# Altium schematic symbol library DRV5023BIQDBZTQ1.SchLib: 2 symbols
Pins are listed as number, name and electrical type; pins without a type are passive.

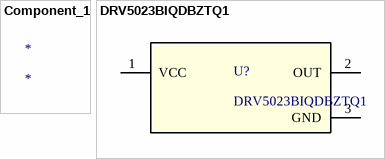
[diagram p0: symbols Component_1 to DRV5023BIQDBZTQ1]

## Component_1
designator *

## DRV5023BIQDBZTQ1
designator U?
No Description Available; Mfr_Name: Texas Instruments; Type: DEV; RefDes: RefDes; Copyright: Copyright (C) 2023 Ultra Librarian. All rights reserved.; Manufacturer_Part_Number: DRV5023BIQDBZTQ1; Digi-Key_Part_Number_1: 2156-DRV5023BIQDBZTQ1-ND; Digi-Key_Part_Number_2: 296-DRV5023BIQDBZTQ1CT-ND; Digi-Key_Part_Number_3: 296-DRV5023BIQDBZTQ1DKR-ND; Digi-Key_Part_Number_4: 296-DRV5023BIQDBZTQ1TR-ND; Digi-Key_Part_Number_5: DRV5023BIQDBZTQ1-ND
footprint DBZ0003A_N
pins: 1 VCC (power), 2 OUT (oc), 3 GND (power)